# EAGLE library part IC_CLK_PL133-37 (library lieBtrau)
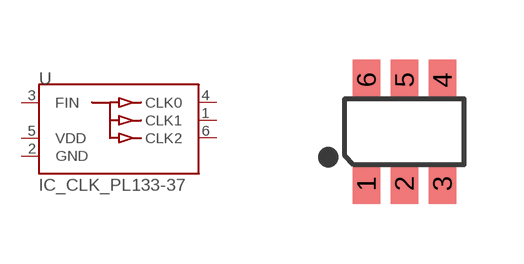
[diagram p4: symbol with the pads of SC_SOT23-6; footprint SC_SOT23-6]

Designator prefix U

## IC_CLK_PL133-37_TC-R_SOT23-6 (COST: 2.55; ORDERCODE: 576-4933-1-ND; VALUE: PL133-37)  [SC_SOT23-6]
1  CLK1
2  GND
3  FIN
4  CLK0
5  VDD
6  CLK2

## Footprint SC_SOT23-6 (pad centres in mm)
smd 0.69 x 1: 1 -0.95,-1.3; 2 0,-1.3; 3 0.95,-1.3; 4 0.95,1.3; 5 0,1.3; 6 -0.95,1.3